# Altium integrated library HeadSink.IntLib: 18 symbols
Pins are listed as number, name and electrical type; pins without a type are passive.

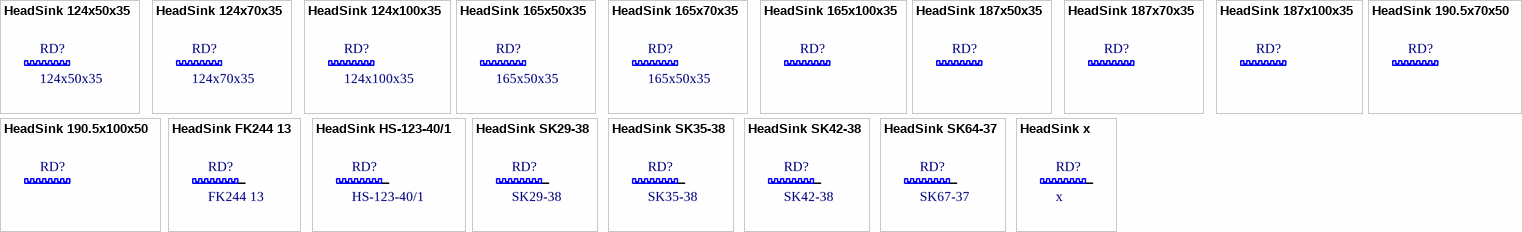
[diagram p0: symbols HeadSink 124x50x35 to HeadSink x]

## HeadSink 124x50x35
designator RD?, comment 124x50x35
INDEL A5724/5; Price: 5
footprint HeadSink 124x50x35

## HeadSink 124x70x35
designator RD?, comment 124x70x35
INDEL A5724/7; Price: 5
footprint HeadSink 124x70x35

## HeadSink 124x100x35
designator RD?, comment 124x100x35
INDEL A5724/10; Price: 7.3
footprint HeadSink 124x100x35

## HeadSink 165x50x35
designator RD?, comment 165x50x35
INDEL A4291/5 1.5C/W; Price: 5
footprint HeadSink 165x70x35V
footprint HeadSink 165x100x35

## HeadSink 165x70x35
designator RD?, comment 165x50x35
INDEL A4291/7 1C/W; Price: 6.5
footprint HeadSink 165x70x35V

## HeadSink 165x100x35
designator RD?
INDEL A4291/10; Price: 7.45
footprint HeadSink 165x100x35
footprint HeadSink 165x100x35V

## HeadSink 187x50x35
designator RD?
INDEL A5352/5; Price: 6.1
footprint HeadSink 187x50x35

## HeadSink 187x70x35
designator RD?
INDEL A5352/7; Price: 7.5
footprint HeadSink 187x70x35

## HeadSink 187x100x35
designator RD?
INDEL A5352/10; Price: 9
footprint HeadSink 187x100x35

## HeadSink 190.5x70x50
designator RD?
INDEL A6023/7; Price: 8.2
footprint HeadSink 190.5x70x50

## HeadSink 190.5x100x50
designator RD?
INDEL A6023/10; Price: 13.62
footprint HeadSink 190.5x100x50

## HeadSink FK244 13
designator RD?, comment FK244 13
FK244 13 D Pak
footprint HeadSink FK244 13
pins: 0

## HeadSink HS-123-40/1
designator RD?, comment HS-123-40/1
Price: 1.3; Variant: HS-123-40/1
footprint HeadSink 17x24x40
pins: 0

## HeadSink SK29-38
designator RD?, comment SK29-38
12C/W; Variant 1: Fischer SK145 37.5; Variant 2: STONECOLD HS-130-38; Price: 2.04
footprint HeadSink SK29-38 (Footprint not found)
pins: 0

## HeadSink SK35-38
designator RD?, comment SK35-38
11C/W; Alternative: Fischer SK104 38.1; Price: 1.2
footprint HeadSink SK35-38 (Footprint not found)
pins: 0

## HeadSink SK42-38
designator RD?, comment SK42-38
6.5C/W; Alternativ: Fischer SK129 38.1; Price: 3.84
footprint HeadSink SK42-38
pins: 0

## HeadSink SK64-37
designator RD?, comment SK67-37
4.1C/W; Variant: Fischer SK64-37; Price: 8.52
footprint HeadSink SK64-37
pins: 0

## HeadSink x
designator RD?, comment x
footprint HeadSink 13
pins: 0